# Altium footprint library 12Pins_2_54.PcbLib: 1 footprints
Each footprint in its own frame and in the unit in brackets; x right, y up, seen from the top. Pads: shape width x height; smd on the part's side, far side on the other; paste and mask are expansions set on the pad; w line width, h text height; cw(c..) or ccw(c..) is an arc to the next point about the centre after c.
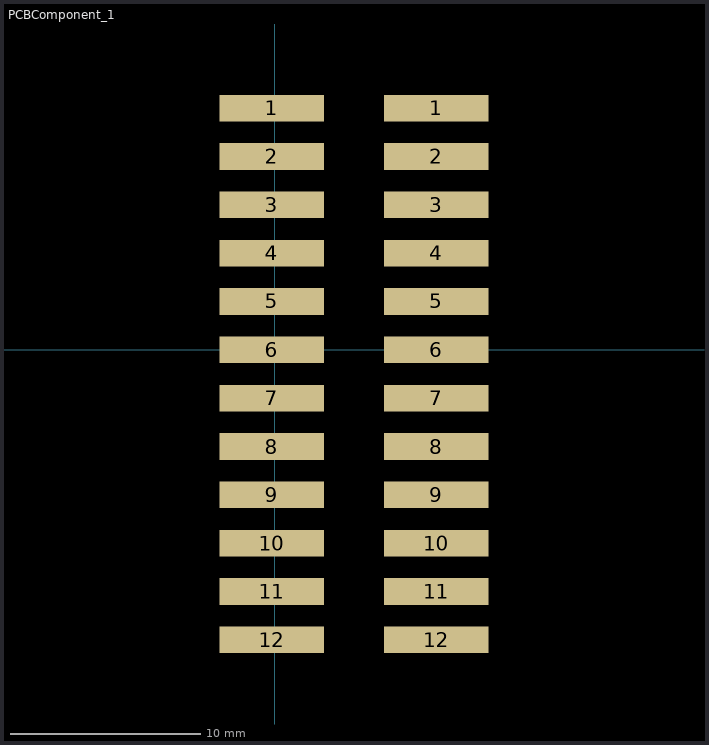
[diagram p0: the footprint, top view; thin cyan lines are the x and y axes]

## PCBComponent_1 [mm]
pads (24):
  rect 5.5x1.4 smd: 1(-0.15,12.7) 1(8.5,12.7) 2(-0.15,10.16) 2(8.5,10.16) 3(-0.15,7.62) 3(8.5,7.62) 4(-0.15,5.08) 4(8.5,5.08) 5(-0.15,2.54) 5(8.5,2.54) 6(-0.15,0) 6(8.5,0) 7(-0.15,-2.54) 7(8.5,-2.54) 8(-0.15,-5.08) 8(8.5,-5.08) 9(-0.15,-7.62) 9(8.5,-7.62) 10(-0.15,-10.16) 10(8.5,-10.16) 11(-0.15,-12.7) 11(8.5,-12.7) 12(-0.15,-15.24) 12(8.5,-15.24)
3D body "12pin_2_54.x_t": height 1.56, standoff -0.94, extent -2.879,-16.507 11.221,13.973